# Altium footprint library Capacitor Electrolytic Snap-In Radial.PcbLib: 97 footprints (part 7 of 7)
Each footprint in its own frame and in the unit in brackets; x right, y up, seen from the top. Pads: shape width x height; smd on the part's side, far side on the other; paste and mask are expansions set on the pad; w line width, h text height; cw(c..) or ccw(c..) is an arc to the next point about the centre after c.
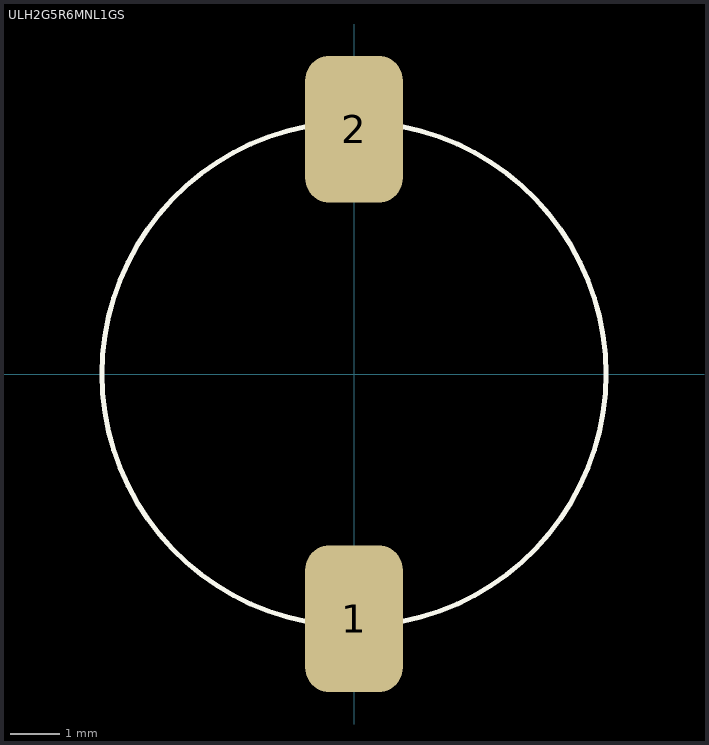
[diagram p6: the footprint, top view; thin cyan lines are the x and y axes]

## ULH2G5R6MNL1GS [mm]
height 10.3
pads (2):
  rrect50% 2x3 smd: 1(0,-5) 2(0,5)
Top Overlay:
  circle w0.1: c0,0 r5.15
3D body: height 10, standoff 0, extent -5,-5 5,5